# EAGLE library part SA602A (library mcp3424)
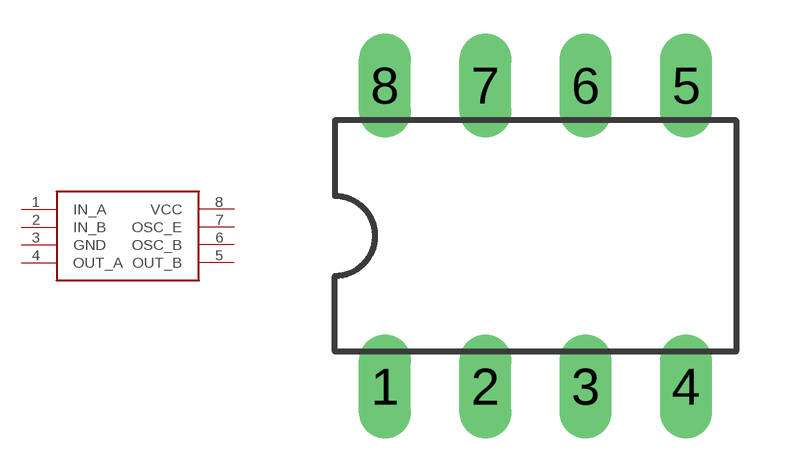
[diagram p10: symbol with the pads of DIL08; footprint DIL08]

Designator prefix -

## SA602A  [DIL08]
1  IN_A
2  IN_B
3  GND
4  OUT_A
5  OUT_B
6  OSC_B
7  OSC_E
8  VCC

## Footprint DIL08 (pad centres in mm)
Dual In Line Package
drill 0.813 long: 1 -3.81,-3.81; 2 -1.27,-3.81; 3 1.27,-3.81; 4 3.81,-3.81; 5 3.81,3.81; 6 1.27,3.81; 7 -1.27,3.81; 8 -3.81,3.81